# Altium integrated library atmega8.IntLib: 1 symbol
Pins are listed as number, name and electrical type; pins without a type are passive.

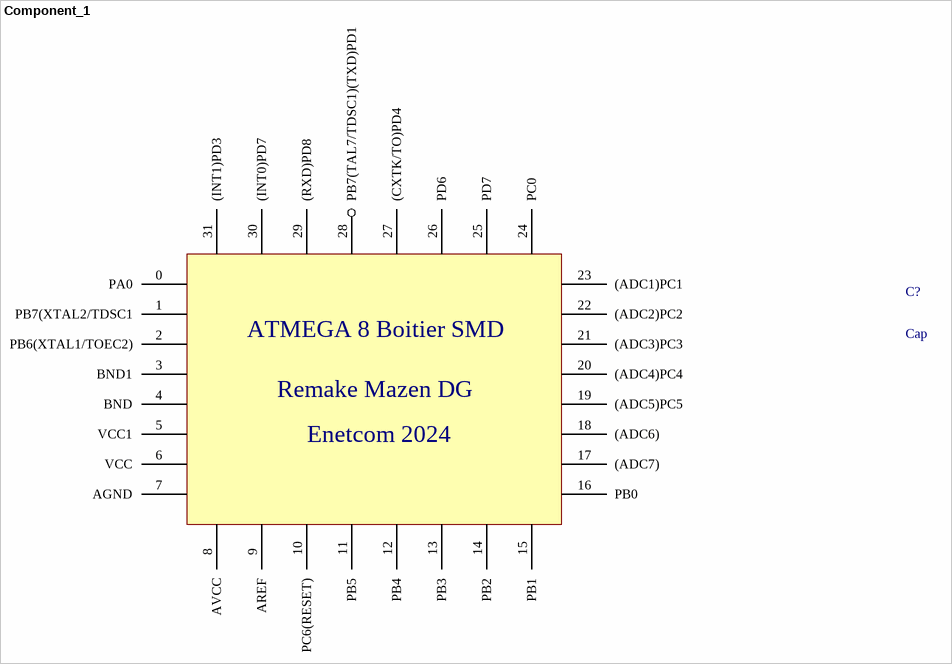
[diagram p0: symbol Component_1]

## Component_1
designator C?, comment Cap
Capacitor; Published: 8-Jun-2000; LatestRevisionDate: 17-Jul-2002; LatestRevisionNote: Re-released for DXP Platform.; PackageReference: RAD-0.3; Publisher: Altium Limited; PackageDescription: Radial Cap, Thru-Hole; 2 Leads; 0.3 in Pin Spacing
footprint Atmega_MAZENKOVIC (TQFP Atmega 8 IC , 32-Leads, Body 7,00x7,00mm, Pitch 0,80mm, IPC Medium Density ,Enetcom Edition)
simulation model Model Name (Model Description)
pins: 0 PA0, 1 PB7(XTAL2/TDSC1, 2 PB6(XTAL1/TOEC2), 3 BND1, 4 BND, 5 VCC1, 6 VCC, 7 AGND, 8 AVCC, 9 AREF, 10 PC6(RESET), 11 PB5, 12 PB4, 13 PB3, 14 PB2, 15 PB1, 16 PB0, 17 (ADC7), 18 (ADC6), 19 (ADC5)PC5, 20 (ADC4)PC4, 21 (ADC3)PC3, 22 (ADC2)PC2, 23 (ADC1)PC1, 24 PC0, 25 PD7, 26 PD6, 27 (CXTK/TO)PD4, 28 PB7(TAL7/TDSC1)(TXD)PD1, 29 (RXD)PD8, 30 (INT0)PD7, 31 (INT1)PD3
text: ATMEGA 8 Boitier SMD; Remake Mazen DG; Enetcom 2024